# Altium footprint library MGMEZZ04.PcbLib: 62 footprints (part 1 of 4)
Each footprint in its own frame and in the unit in brackets; x right, y up, seen from the top. Pads: shape width x height; smd on the part's side, far side on the other; paste and mask are expansions set on the pad; w line width, h text height; cw(c..) or ccw(c..) is an arc to the next point about the centre after c.
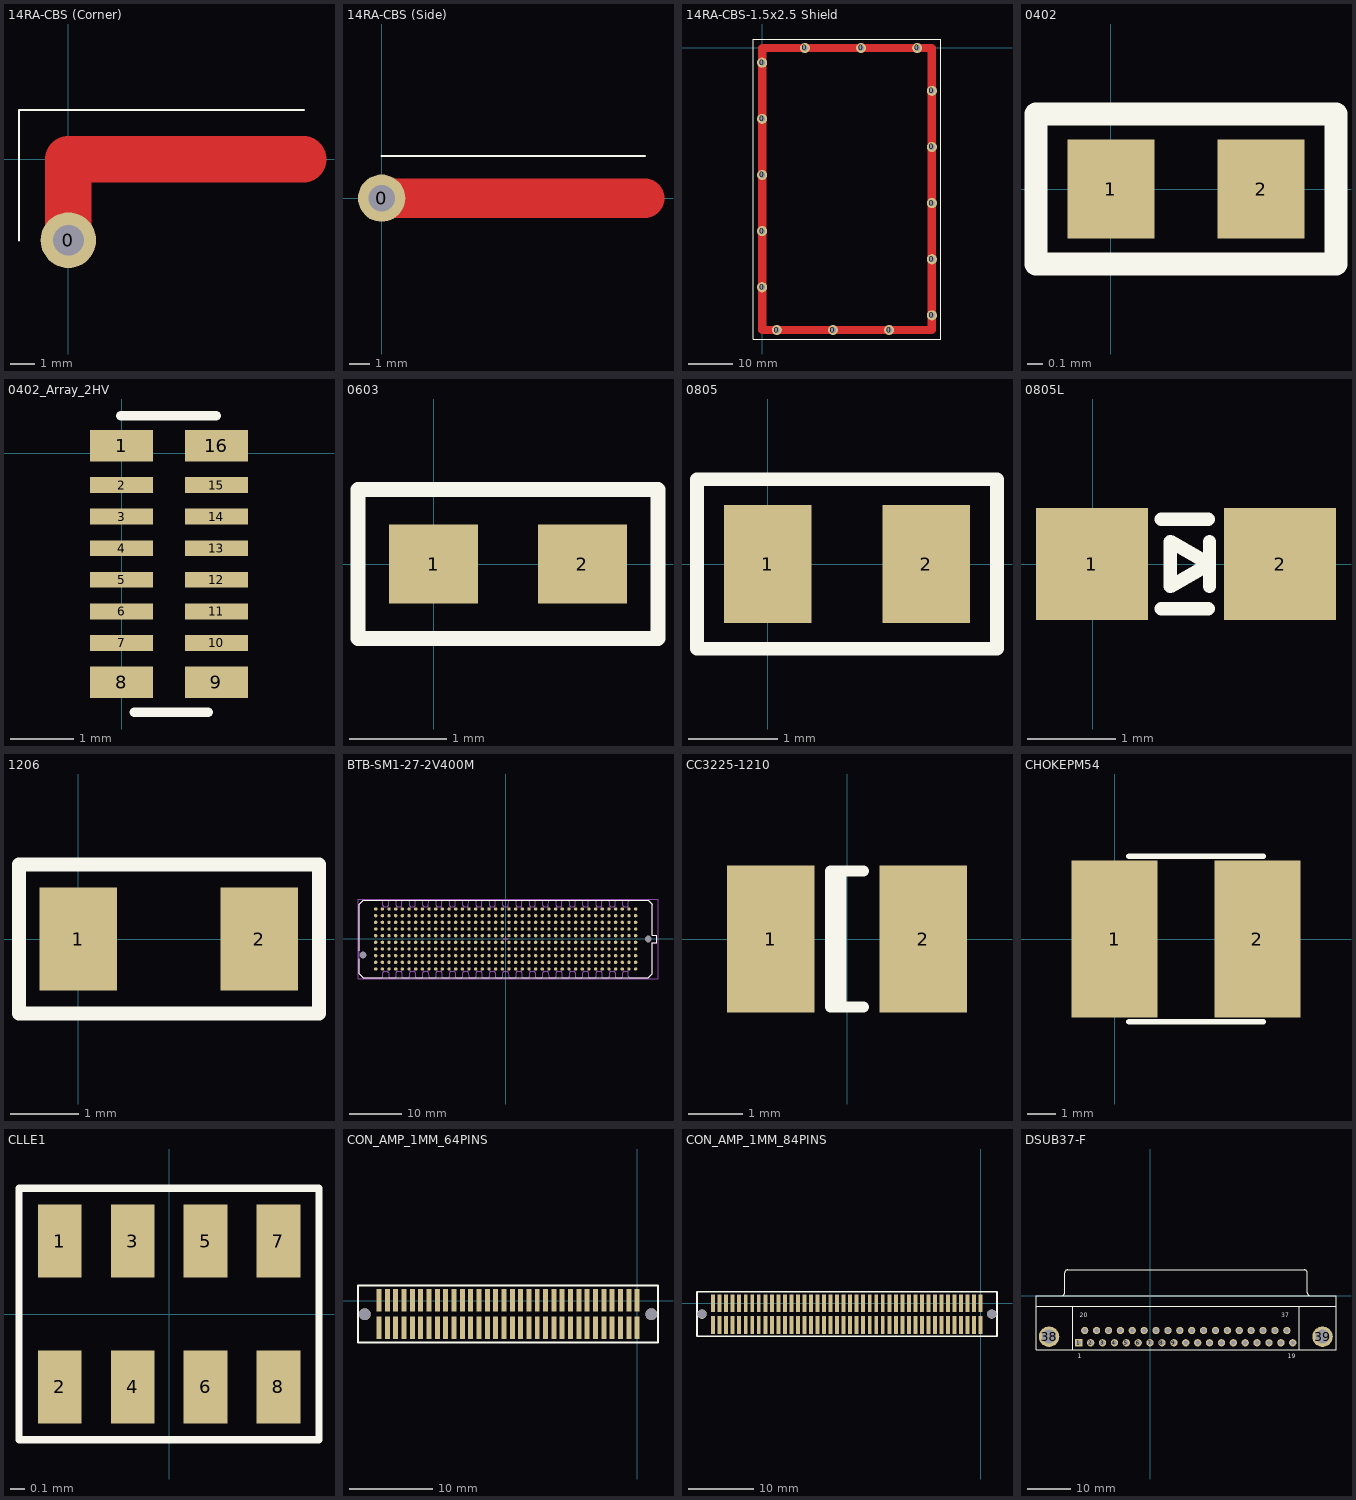
[diagram p0: the footprints below, top view; thin cyan lines are the x and y axes]

## 14RA-CBS (Corner) [mil] "Leader tech shield corner - through hole"
height 129.92
pads (1):
  round 90 hole 50: 0(0,-131)
Top Layer:
  lines w75: 0,-131 0,0 381,0
Top Overlay:
  lines w4: -80,-131 -80,80 381,80
Mechanical 3:
  lines w2: 356,0 381,0 ; 381,-25 381,0 ; 381,25 381,0 ; 406,0 381,0

## 14RA-CBS (Side) [mil] "Leader tech shield corner - through hole"
height 129.92
pads (1):
  round 90 hole 50: 0(0,0)
Top Layer:
  lines w75: 0,0 500,0
Top Overlay:
  lines w4: 0,80 500,80
Mechanical 3:
  lines w2: 475,0 500,0 ; 500,-25 500,0 ; 500,25 500,0 ; 525,0 500,0

## 14RA-CBS-1.5x2.5 Shield [mil]
height 129.92
pads (16):
  round 90 hole 50: 0(0,-2131) 0(0,-1631) 0(0,-1131) 0(0,-631) 0(0,-131) 0(131,-2512) 0(381,0) 0(631,-2512) 0(881,0) 0(1131,-2512) 0(1381,0) 0(1512,-2381) 0(1512,-1881.69) 0(1512,-1381.69) 0(1512,-881.69) 0(1512,-381.69)
Top Layer:
  lines w75: 1512,-2381.69 1512,-1881.69 1512,-1381.69 1512,-881.69 1512,-381.69 ; 1512,-2381 1512,-2512 1131,-2512 631,-2512 131,-2512 0,-2512 0,-2131 0,-1631 0,-1131 0,-631 0,-131 0,0 381,0 881,0 1381,0 1512,0 1512,-381
Top Overlay:
  lines w4: 1592,-2381.69 1592,-1881.69 1592,-1381.69 1592,-881.69 1592,-381.69 ; 1592,-2381 1592,-2592 1131,-2592 631,-2592 131,-2592 -80,-2592 -80,-2131 -80,-1631 -80,-1131 -80,-631 -80,-131 -80,80 381,80 881,80 1381,80 1592,80 1592,-381
Mechanical 3:
  lines w2: -25,-2131 0,-2131 ; -25,-1631 0,-1631 ; -25,-1131 0,-1131 ; -25,-631 0,-631 ; -25,-131 0,-131 ; 0,-2156 0,-2131 ; 0,-2106 0,-2131 ; 0,-1656 0,-1631 ; 0,-1606 0,-1631 ; 0,-1156 0,-1131 ; 0,-1106 0,-1131 ; 0,-656 0,-631 ; 0,-606 0,-631 ; 0,-156 0,-131 ; 0,-106 0,-131 ; 25,-2131 0,-2131 ; 25,-1631 0,-1631 ; 25,-1131 0,-1131 ; 25,-631 0,-631 ; 25,-131 0,-131 ; 106,-2512 131,-2512 ; 131,-2537 131,-2512 ; 131,-2487 131,-2512 ; 156,-2512 131,-2512 ; 356,0 381,0 ; 381,-25 381,0 ; 381,25 381,0 ; 406,0 381,0 ; 606,-2512 631,-2512 ; 631,-2537 631,-2512 ; 631,-2487 631,-2512 ; 656,-2512 631,-2512 ; 856,0 881,0 ; 881,-25 881,0 ; 881,25 881,0 ; 906,0 881,0 ; 1106,-2512 1131,-2512 ; 1131,-2537 1131,-2512 ; 1131,-2487 1131,-2512 ; 1156,-2512 1131,-2512 ; 1356,0 1381,0 ; 1381,-25 1381,0 ; 1381,25 1381,0 ; 1406,0 1381,0 ; 1487,-2381.69 1512,-2381.69 ; 1487,-1881.69 1512,-1881.69 ; 1487,-1381.69 1512,-1381.69 ; 1487,-881.69 1512,-881.69 ; 1487,-381 1512,-381 ; 1512,-2406.69 1512,-2381.69 ; 1512,-2356.69 1512,-2381.69 ; 1512,-1906.69 1512,-1881.69 ; 1512,-1856.69 1512,-1881.69 ; 1512,-1406.69 1512,-1381.69 ; 1512,-1356.69 1512,-1381.69 ; 1512,-906.69 1512,-881.69 ; 1512,-856.69 1512,-881.69 ; 1512,-406 1512,-381 ; 1512,-356 1512,-381 ; 1537,-2381.69 1512,-2381.69 ; 1537,-1881.69 1512,-1881.69 ; 1537,-1381.69 1512,-1381.69 ; 1537,-881.69 1512,-881.69 ; 1537,-381 1512,-381
3D body: height 129.92, standoff 0, extent -80,-2590 1590,80

## 0402 [mm]
pads (2):
  rect 0.58x0.66 smd: 1(0,0) 2(1,0)
Top Overlay:
  lines w0.152: -0.5,-0.5 1.5,-0.5 1.5,0.5 -0.5,0.5 -0.5,-0.5

## 0402_Array_2HV [mm]
pads (16):
  rect 1x0.5 smd: 1(0,0.125) 8(0,-3.625) 9(1.5,-3.625) 16(1.5,0.125)
  rect 1x0.25 smd: 2(0,-0.5) 3(0,-1) 4(0,-1.5) 5(0,-2) 6(0,-2.5) 7(0,-3) 10(1.5,-3) 11(1.5,-2.5) 12(1.5,-2) 13(1.5,-1.5) 14(1.5,-1) 15(1.5,-0.5)
Top Overlay:
  lines w0.152: -0.01,0.6 1.5,0.6 ; 0.2,-4.1 1.37,-4.1

## 0603 [mil]
pads (2):
  rect 36x32 smd: 1(0,0) 2(60,0)
Top Overlay:
  lines w6: -30.5,-30 -30.5,30 90.5,30 90.5,-30 -30.5,-30

## 0805 [mil]
pads (2):
  rect 38.5x52 smd: 1(0,0) 2(70,0)
Top Overlay:
  lines w6: -31.25,-37.5 101.25,-37.5 101.25,37.5 -31.25,37.5 -31.25,-37.5

## 0805L [mil]
pads (2):
  rect 50x50 smd: 1(-0.4,0.18) 2(83.6,0.18)
Top Overlay:
  lines w6: 30.6,-19.82 51.6,-19.82 ; 30.6,20.18 51.6,20.18 ; 52.1,-9.82 52.1,10.18 ; 34.6,-9.82 52.1,0.18 34.6,10.18 34.6,-9.82

## 1206 [mil]
pads (2):
  rect 45x60 smd: 1(0,0) 2(105,0)
Top Overlay:
  lines w8: -34.45,-43.31 139.76,-43.31 139.76,43.31 -34.45,43.31 -34.45,-43.31

## BTB-SM1-27-2V400M [mm] "Board-to-Board Connector, Vertical, 10-Row, Pitch 1.27mm, 400-Position"
height 7.12
pads (402):
  round 0.64 smd: A1(24.765,5.715) A2(23.495,5.715) A3(22.225,5.715) A4(20.955,5.715) A5(19.685,5.715) A6(18.415,5.715) A7(17.145,5.715) A8(15.875,5.715) A9(14.605,5.715) A10(13.335,5.715) A11(12.065,5.715) A12(10.795,5.715) A13(9.525,5.715) A14(8.255,5.715) A15(6.985,5.715) A16(5.715,5.715) A17(4.445,5.715) A18(3.175,5.715) A19(1.905,5.715) A20(0.635,5.715) A21(-0.635,5.715) A22(-1.905,5.715) A23(-3.175,5.715) A24(-4.445,5.715) A25(-5.715,5.715) A26(-6.985,5.715) A27(-8.255,5.715) A28(-9.525,5.715) A29(-10.795,5.715) A30(-12.065,5.715) A31(-13.335,5.715) A32(-14.605,5.715) A33(-15.875,5.715) A34(-17.145,5.715) A35(-18.415,5.715) A36(-19.685,5.715) A37(-20.955,5.715) A38(-22.225,5.715) A39(-23.495,5.715) A40(-24.765,5.715) B1(24.765,4.445) B2(23.495,4.445) B3(22.225,4.445) B4(20.955,4.445) B5(19.685,4.445) B6(18.415,4.445) B7(17.145,4.445) B8(15.875,4.445) B9(14.605,4.445) B10(13.335,4.445) B11(12.065,4.445) B12(10.795,4.445) B13(9.525,4.445) B14(8.255,4.445) B15(6.985,4.445) B16(5.715,4.445) B17(4.445,4.445) B18(3.175,4.445) B19(1.905,4.445) B20(0.635,4.445) B21(-0.635,4.445) B22(-1.905,4.445) B23(-3.175,4.445) B24(-4.445,4.445) B25(-5.715,4.445) B26(-6.985,4.445) B27(-8.255,4.445) B28(-9.525,4.445) B29(-10.795,4.445) B30(-12.065,4.445) B31(-13.335,4.445) B32(-14.605,4.445) B33(-15.875,4.445) B34(-17.145,4.445) B35(-18.415,4.445) B36(-19.685,4.445) B37(-20.955,4.445) B38(-22.225,4.445) B39(-23.495,4.445) B40(-24.765,4.445) C1(24.765,3.175) C2(23.495,3.175) C3(22.225,3.175) C4(20.955,3.175) C5(19.685,3.175) C6(18.415,3.175) C7(17.145,3.175) C8(15.875,3.175) C9(14.605,3.175) C10(13.335,3.175) C11(12.065,3.175) C12(10.795,3.175) C13(9.525,3.175) C14(8.255,3.175) C15(6.985,3.175) C16(5.715,3.175) C17(4.445,3.175) C18(3.175,3.175) C19(1.905,3.175) C20(0.635,3.175) C21(-0.635,3.175) C22(-1.905,3.175) C23(-3.175,3.175) C24(-4.445,3.175) C25(-5.715,3.175) C26(-6.985,3.175) C27(-8.255,3.175) C28(-9.525,3.175) C29(-10.795,3.175) C30(-12.065,3.175) C31(-13.335,3.175) C32(-14.605,3.175) C33(-15.875,3.175) C34(-17.145,3.175) C35(-18.415,3.175) C36(-19.685,3.175) C37(-20.955,3.175) C38(-22.225,3.175) C39(-23.495,3.175) C40(-24.765,3.175) D1(24.765,1.905) D2(23.495,1.905) D3(22.225,1.905) D4(20.955,1.905) D5(19.685,1.905) D6(18.415,1.905) D7(17.145,1.905) D8(15.875,1.905) D9(14.605,1.905) D10(13.335,1.905) D11(12.065,1.905) D12(10.795,1.905) D13(9.525,1.905) D14(8.255,1.905) D15(6.985,1.905) D16(5.715,1.905) D17(4.445,1.905) D18(3.175,1.905) D19(1.905,1.905) D20(0.635,1.905) D21(-0.635,1.905) D22(-1.905,1.905) D23(-3.175,1.905) D24(-4.445,1.905) D25(-5.715,1.905) D26(-6.985,1.905) D27(-8.255,1.905) D28(-9.525,1.905) D29(-10.795,1.905) D30(-12.065,1.905) D31(-13.335,1.905) D32(-14.605,1.905) D33(-15.875,1.905) D34(-17.145,1.905) D35(-18.415,1.905) D36(-19.685,1.905) D37(-20.955,1.905) D38(-22.225,1.905) D39(-23.495,1.905) D40(-24.765,1.905) E1(24.765,0.635) E2(23.495,0.635) E3(22.225,0.635) E4(20.955,0.635) E5(19.685,0.635) E6(18.415,0.635) E7(17.145,0.635) E8(15.875,0.635) E9(14.605,0.635) E10(13.335,0.635) E11(12.065,0.635) E12(10.795,0.635) E13(9.525,0.635) E14(8.255,0.635) E15(6.985,0.635) E16(5.715,0.635) E17(4.445,0.635) E18(3.175,0.635) E19(1.905,0.635) E20(0.635,0.635) E21(-0.635,0.635) E22(-1.905,0.635) E23(-3.175,0.635) E24(-4.445,0.635) E25(-5.715,0.635) E26(-6.985,0.635) E27(-8.255,0.635) E28(-9.525,0.635) E29(-10.795,0.635) E30(-12.065,0.635) E31(-13.335,0.635) E32(-14.605,0.635) E33(-15.875,0.635) E34(-17.145,0.635) E35(-18.415,0.635) E36(-19.685,0.635) E37(-20.955,0.635) E38(-22.225,0.635) E39(-23.495,0.635) E40(-24.765,0.635) F1(24.765,-0.635) F2(23.495,-0.635) F3(22.225,-0.635) F4(20.955,-0.635) F5(19.685,-0.635) F6(18.415,-0.635) F7(17.145,-0.635) F8(15.875,-0.635) F9(14.605,-0.635) F10(13.335,-0.635) F11(12.065,-0.635) F12(10.795,-0.635) F13(9.525,-0.635) F14(8.255,-0.635) F15(6.985,-0.635) F16(5.715,-0.635) F17(4.445,-0.635) F18(3.175,-0.635) F19(1.905,-0.635) F20(0.635,-0.635) F21(-0.635,-0.635) F22(-1.905,-0.635) F23(-3.175,-0.635) F24(-4.445,-0.635) F25(-5.715,-0.635) F26(-6.985,-0.635) F27(-8.255,-0.635) F28(-9.525,-0.635) F29(-10.795,-0.635) F30(-12.065,-0.635) F31(-13.335,-0.635) F32(-14.605,-0.635) F33(-15.875,-0.635) F34(-17.145,-0.635) F35(-18.415,-0.635) F36(-19.685,-0.635) F37(-20.955,-0.635) F38(-22.225,-0.635) F39(-23.495,-0.635) F40(-24.765,-0.635) G1(24.765,-1.905) G2(23.495,-1.905) G3(22.225,-1.905) G4(20.955,-1.905) G5(19.685,-1.905) G6(18.415,-1.905) G7(17.145,-1.905) G8(15.875,-1.905) G9(14.605,-1.905) G10(13.335,-1.905) G11(12.065,-1.905) G12(10.795,-1.905) G13(9.525,-1.905) G14(8.255,-1.905) G15(6.985,-1.905) G16(5.715,-1.905) G17(4.445,-1.905) G18(3.175,-1.905) G19(1.905,-1.905) G20(0.635,-1.905) G21(-0.635,-1.905) G22(-1.905,-1.905) G23(-3.175,-1.905) G24(-4.445,-1.905) G25(-5.715,-1.905) G26(-6.985,-1.905) G27(-8.255,-1.905) G28(-9.525,-1.905) G29(-10.795,-1.905) G30(-12.065,-1.905) G31(-13.335,-1.905) G32(-14.605,-1.905) G33(-15.875,-1.905) G34(-17.145,-1.905) G35(-18.415,-1.905) G36(-19.685,-1.905) G37(-20.955,-1.905) G38(-22.225,-1.905) G39(-23.495,-1.905) G40(-24.765,-1.905) H1(24.765,-3.175) H2(23.495,-3.175) H3(22.225,-3.175) H4(20.955,-3.175) H5(19.685,-3.175) H6(18.415,-3.175) H7(17.145,-3.175) H8(15.875,-3.175) H9(14.605,-3.175) H10(13.335,-3.175) H11(12.065,-3.175) H12(10.795,-3.175) H13(9.525,-3.175) H14(8.255,-3.175) H15(6.985,-3.175) H16(5.715,-3.175) H17(4.445,-3.175) H18(3.175,-3.175) H19(1.905,-3.175) H20(0.635,-3.175) H21(-0.635,-3.175) H22(-1.905,-3.175) H23(-3.175,-3.175) H24(-4.445,-3.175) H25(-5.715,-3.175) H26(-6.985,-3.175) H27(-8.255,-3.175) H28(-9.525,-3.175) H29(-10.795,-3.175) H30(-12.065,-3.175) H31(-13.335,-3.175) H32(-14.605,-3.175) H33(-15.875,-3.175) H34(-17.145,-3.175) H35(-18.415,-3.175) H36(-19.685,-3.175) H37(-20.955,-3.175) H38(-22.225,-3.175) H39(-23.495,-3.175) H40(-24.765,-3.175) J1(24.765,-4.445) J2(23.495,-4.445) J3(22.225,-4.445) J4(20.955,-4.445) J5(19.685,-4.445) J6(18.415,-4.445) J7(17.145,-4.445) J8(15.875,-4.445) J9(14.605,-4.445) J10(13.335,-4.445) J11(12.065,-4.445) J12(10.795,-4.445) J13(9.525,-4.445) J14(8.255,-4.445) J15(6.985,-4.445) J16(5.715,-4.445) J17(4.445,-4.445) J18(3.175,-4.445) J19(1.905,-4.445) J20(0.635,-4.445) J21(-0.635,-4.445) J22(-1.905,-4.445) J23(-3.175,-4.445) J24(-4.445,-4.445) J25(-5.715,-4.445) J26(-6.985,-4.445) J27(-8.255,-4.445) J28(-9.525,-4.445) J29(-10.795,-4.445) J30(-12.065,-4.445) J31(-13.335,-4.445) J32(-14.605,-4.445) J33(-15.875,-4.445) J34(-17.145,-4.445) J35(-18.415,-4.445) J36(-19.685,-4.445) J37(-20.955,-4.445) J38(-22.225,-4.445) J39(-23.495,-4.445) J40(-24.765,-4.445) K1(24.765,-5.715) K2(23.495,-5.715) K3(22.225,-5.715) K4(20.955,-5.715) K5(19.685,-5.715) K6(18.415,-5.715) K7(17.145,-5.715) K8(15.875,-5.715) K9(14.605,-5.715) K10(13.335,-5.715) K11(12.065,-5.715) K12(10.795,-5.715) K13(9.525,-5.715) K14(8.255,-5.715) K15(6.985,-5.715) K16(5.715,-5.715) K17(4.445,-5.715) K18(3.175,-5.715) K19(1.905,-5.715) K20(0.635,-5.715) K21(-0.635,-5.715) K22(-1.905,-5.715) K23(-3.175,-5.715) K24(-4.445,-5.715) K25(-5.715,-5.715) K26(-6.985,-5.715) K27(-8.255,-5.715) K28(-9.525,-5.715) K29(-10.795,-5.715) K30(-12.065,-5.715) K31(-13.335,-5.715) K32(-14.605,-5.715) K33(-15.875,-5.715) K34(-17.145,-5.715) K35(-18.415,-5.715) K36(-19.685,-5.715) K37(-20.955,-5.715) K38(-22.225,-5.715) K39(-23.495,-5.715) K40(-24.765,-5.715)
  round 0.97 hole 1.27 unplated: MH1(-27.19,-3.05) MH2(27.19,0)
Top Overlay:
  lines w0.2: -27.888,-3.75 -27.888,-6.58 -27.126,-7.343 -23.647,-7.343 23.648,-7.343 27.128,-7.343 27.89,-6.58 27.89,-0.764 28.779,-0.764 28.779,0.76 27.89,0.76 27.89,6.577 27.128,7.339 23.648,7.339 -23.647,7.339 -27.126,7.339 -27.888,6.577 -27.888,-2.25
Mechanical 13:
  drawing of 324 lines, arcs and shapes, not listed
Mechanical 15:
  lines w0.1: -28.139,-7.593 29.029,-7.593 29.029,7.589 -28.139,7.589 -28.139,-7.589 ; -0.5,0 0.5,0 ; 0,-0.5 0,0.5
3D body: height 2, standoff 0.1, extent -27.889,-0.764 -26.492,0.762
3D body: height 2, standoff 0.1, extent -27.889,-6.583 -26.492,-5.692
3D body: height 2, standoff 0.1, extent -27.889,2.284 -26.492,3.808
3D body: height 2, standoff 0.1, extent -27.888,5.685 -26.491,6.576
3D body: height 2, standoff 0.1, extent 27.89,-0.764 28.779,0.76
3D body: height 7.21, standoff 0.84, extent -27.889,-4.574 -26.731,-3.05
3D body: height 7.21, standoff 0.84, extent -27.889,3.046 -26.731,4.57
3D body: height 7.21, standoff 0.84, extent 26.696,0.697 27.89,2.005
3D body: height 7.21, standoff 0.84, extent 26.696,-2.009 27.89,-0.701
3D body: height 6.2, standoff 0.84, extent 25.655,2.005 26.95,5.738
3D body: height 6.2, standoff 0.84, extent 25.655,-5.742 26.95,-2.009
3D body: height 6.2, standoff 0.84, extent -25.653,-0.662 26.29,0.658
3D body: height 6.2, standoff 0.84, extent -26.949,-3.202 26.95,-1.882
3D body: height 6.2, standoff 0.84, extent -26.949,4.418 26.95,5.738
3D body: height 6.2, standoff 0.84, extent -26.949,-5.742 26.95,-4.422
3D body: height 6.2, standoff 0.84, extent -26.949,1.878 26.95,3.198
3D body: height 6.2, standoff 0.84, extent 26.29,-1.882 27.89,2.005
3D body: height 6.2, standoff 0.84, extent -26.949,-1.882 -25.349,2.005
3D body: height 6.2, standoff 0.84, extent -26.949,2.005 -25.653,5.738
3D body: height 6.2, standoff 0.84, extent -26.949,-5.742 -25.653,-2.009
3D body: height 2, standoff 0.1, extent 26.493,-6.581 27.89,-5.69
3D body: height 2, standoff 0.1, extent 26.493,-3.812 27.89,-2.288
3D body: height 2, standoff 0.1, extent 26.493,2.284 27.89,3.808
3D body: height 2, standoff 0.1, extent 26.493,5.685 27.89,6.576
3D body: height 2, standoff 0.6, extent 26.493,-6.581 27.89,6.577
3D body: height 2, standoff 0.35, extent -27.889,-3.812 -26.492,-2.288
3D body: height 2, standoff 0.35, extent 26.493,-0.764 27.89,0.76
3D body: height 0.73, standoff -1.27, extent 26.636,-0.51 27.751,0.608
3D body: height 2, standoff -1.27, extent -27.634,-3.608 -26.746,-2.492
3D body: height 6.32, standoff 6.2, extent -5.14,-5.14 5.14,5.14
3D body: height 3.45, standoff 0.84, extent -27.889,-7.348 28.779,7.344

## CC3225-1210 [mm]
pads (2):
  rect 1.6x2.7 smd: 1(-1.4,0) 2(1.4,0)
Top Overlay:
  lines w0.2: -0.11,-1.25 -0.11,1.25 ; 0.3,-1.25 -0.3,-1.25 -0.3,1.25 0.3,1.25

## CHOKEPM54 [mil]
pads (2):
  rect 118.1x216.53 smd: 1(-0.4,0.12) 2(196.27,0.12)
Top Overlay:
  lines w8: 19.27,-113.95 204.27,-113.95 ; 19.27,114.18 204.27,114.18

## CLLE1 [mm] "Capacitor array"
height 0.95
pads (8):
  rect 0.3x0.5 smd paste+0 mask+0.051: 1(-0.75,0.5) 2(-0.75,-0.5) 3(-0.25,0.5) 4(-0.25,-0.5) 5(0.25,0.5) 6(0.25,-0.5) 7(0.75,0.5) 8(0.75,-0.5)
Top Overlay:
  lines w0.051: -1.029,-0.864 1.028,-0.864 1.028,0.864 -1.029,0.864 -1.029,-0.864
3D body: height 0.51, standoff -0.01, extent -1.004,-0.625 0.996,0.655

## CON_AMP_1MM_64PINS [mil]
pads (66):
  rect 23.6x106.3 smd: 1(-0.4,0.18) 2(-0.4,-129.73) 3(-39.77,0.18) 4(-39.77,-129.73) 5(-79.13,0.18) 6(-79.13,-129.73) 7(-118.5,0.18) 8(-118.5,-129.73) 9(-157.87,0.18) 10(-157.87,-129.73) 11(-197.23,0.18) 12(-197.23,-129.73) 13(-236.6,0.18) 14(-236.6,-129.73) 15(-275.97,0.18) 16(-275.97,-129.73) 17(-315.33,0.18) 18(-315.33,-129.73) 19(-354.7,0.18) 20(-354.7,-129.73) 21(-394.07,0.18) 22(-394.07,-129.73) 23(-433.43,0.18) 24(-433.43,-129.73) 25(-472.8,0.18) 26(-472.8,-129.73) 27(-512.17,0.18) 28(-512.17,-129.73) 29(-551.53,0.18) 30(-551.53,-129.73) 31(-590.9,0.18) 32(-590.9,-129.73) 33(-630.27,0.18) 34(-630.27,-129.73) 35(-669.63,0.18) 36(-669.63,-129.73) 37(-709,0.18) 38(-709,-129.73) 39(-748.37,0.18) 40(-748.37,-129.73) 41(-787.73,0.18) 42(-787.73,-129.73) 43(-827.1,0.18) 44(-827.1,-129.73) 45(-866.47,0.18) 46(-866.47,-129.73) 47(-905.83,0.18) 48(-905.83,-129.73) 49(-945.2,0.18) 50(-945.2,-129.73) 51(-984.57,0.18) 52(-984.57,-129.73) 53(-1023.93,0.18) 54(-1023.93,-129.73) 55(-1063.3,0.18) 56(-1063.3,-129.73) 57(-1102.67,0.18) 58(-1102.67,-129.73) 59(-1142.03,0.18) 60(-1142.03,-129.73) 61(-1181.4,0.18) 62(-1181.4,-129.73) 63(-1220.77,0.18) 64(-1220.77,-129.73)
  round 56 hole 55 unplated: HOLE1(-1287.8,-64.72) HOLE2(66.52,-64.77)
Top Overlay:
  lines w10: -1320.03,-198.45 -1320.03,70.98 97.93,70.98 97.93,-198.45 -1320.03,-198.45

## CON_AMP_1MM_84PINS [mil]
pads (86):
  rect 23.6x106.3 smd: 1(-0.4,0.12) 2(-0.4,-129.8) 3(-39.77,0.12) 4(-39.77,-129.8) 5(-79.13,0.12) 6(-79.13,-129.8) 7(-118.5,0.12) 8(-118.5,-129.8) 9(-157.87,0.12) 10(-157.87,-129.8) 11(-197.23,0.12) 12(-197.23,-129.8) 13(-236.6,0.12) 14(-236.6,-129.8) 15(-275.97,0.12) 16(-275.97,-129.8) 17(-315.33,0.12) 18(-315.33,-129.8) 19(-354.7,0.12) 20(-354.7,-129.8) 21(-394.07,0.12) 22(-394.07,-129.8) 23(-433.43,0.12) 24(-433.43,-129.8) 25(-472.8,0.12) 26(-472.8,-129.8) 27(-512.17,0.12) 28(-512.17,-129.8) 29(-551.53,0.12) 30(-551.53,-129.8) 31(-590.9,0.12) 32(-590.9,-129.8) 33(-630.27,0.12) 34(-630.27,-129.8) 35(-669.63,0.12) 36(-669.63,-129.8) 37(-709,0.12) 38(-709,-129.8) 39(-748.37,0.12) 40(-748.37,-129.8) 41(-787.73,0.12) 42(-787.73,-129.8) 43(-827.1,0.12) 44(-827.1,-129.8) 45(-866.47,0.12) 46(-866.47,-129.8) 47(-905.83,0.12) 48(-905.83,-129.8) 49(-945.2,0.12) 50(-945.2,-129.8) 51(-984.57,0.12) 52(-984.57,-129.8) 53(-1023.93,0.12) 54(-1023.93,-129.8) 55(-1063.3,0.12) 56(-1063.3,-129.8) 57(-1102.67,0.12) 58(-1102.67,-129.8) 59(-1142.03,0.12) 60(-1142.03,-129.8) 61(-1181.4,0.12) 62(-1181.4,-129.8) 63(-1220.77,0.12) 64(-1220.77,-129.8) 65(-1260.13,0.12) 66(-1260.13,-129.8) 67(-1299.5,0.12) 68(-1299.5,-129.8) 69(-1338.87,0.12) 70(-1338.87,-129.8) 71(-1378.23,0.12) 72(-1378.23,-129.8) 73(-1417.6,0.12) 74(-1417.6,-129.8) 75(-1456.97,0.12) 76(-1456.97,-129.8) 77(-1496.33,0.12) 78(-1496.33,-129.8) 79(-1535.7,0.12) 80(-1535.7,-129.8) 81(-1575.07,0.12) 82(-1575.07,-129.8) 83(-1614.43,0.12) 84(-1614.43,-129.8)
  round 56 hole 55 unplated: HOLE1(-1681.5,-64.83) HOLE2(66.52,-64.83)
Top Overlay:
  lines w10: -1711.4,-198.52 -1711.4,70.92 97.93,70.92 97.93,-198.52 -1711.4,-198.52

## DSUB37-F [mm] "DSUB 37Pin Female"
height 12.55
pads (39):
  rect 1.69x1.69 hole 1.09: 1(-16.566,-10.92)
  round 1.69 hole 1.09: 2(-13.806,-10.92) 3(-11.046,-10.92) 4(-8.286,-10.92) 5(-5.526,-10.92) 6(-2.766,-10.92) 7(-0.006,-10.92) 8(2.754,-10.92) 9(5.514,-10.92) 10(8.274,-10.92) 11(11.034,-10.92) 12(13.794,-10.92) 13(16.554,-10.92) 14(19.314,-10.92) 15(22.074,-10.92) 16(24.834,-10.92) 17(27.594,-10.92) 18(30.354,-10.92) 19(33.114,-10.92) 20(-15.187,-8.08) 21(-12.427,-8.08) 22(-9.667,-8.08) 23(-6.907,-8.08) 24(-4.147,-8.08) 25(-1.387,-8.08) 26(1.373,-8.08) 27(4.133,-8.08) 28(6.893,-8.08) 29(9.653,-8.08) 30(12.413,-8.08) 31(15.173,-8.08) 32(17.933,-8.08) 33(20.693,-8.08) 34(23.453,-8.08) 35(26.213,-8.08) 36(28.973,-8.08) 37(31.733,-8.08)
  round 4.76 hole 3.26: 38(-23.476,-9.5) 39(40.024,-9.5)
Top Overlay:
  lines w0.102: -26.496,-2.413 43.152,-2.413
  lines w0.2: -20.541,0.005 ccw(c-20.541,0.7) -19.846,0.7 -19.846,5.3 ; -19.841,5.305 cw(c-19.146,5.305) -19.146,6 35.802,6 cw(c35.802,5.305) 36.497,5.305 ; -17.946,-12.5 -17.946,-2.54 ; 34.602,-2.464 34.602,-12.5 ; 36.502,5.3 36.502,0.7 ccw(c37.197,0.7) 37.197,0.005 ; 34.602,-12.5 43.152,-12.5 43.152,0 -26.496,0 -26.496,-12.5 34.602,-12.5
  text "1" at -16.816,-14.475 h1.02
  text "19" at 31.989,-14.475 h1.02
  text "20" at -16.31,-4.975 h1.02
  text "37" at 30.484,-4.975 h1.02
3D body: height 12.55, standoff -3.17, extent -26.257,-12.952 43.059,6.123